# EAGLE library part 612034235221 (library Wire_to_Board_Connectors_rev15d)
WR-BHD 2.54mm Male Angled Box Header High Temperature, 34 Pins=>Code : Con_WTB_BHD_2.54_Male_THT_RS_612034235221 <http://katalog.we-online.de/media/thumbs2/eican/thb_Con_WTB_BHD_2.54_Male_THT_RS_6120xx235221_pf2.jpg> Details see: http://katalog.we-online.de/en/em/612_0xx_235_221 Created 2014-06-05, Karrer Zheng 2014 (C) Würth Elektronik
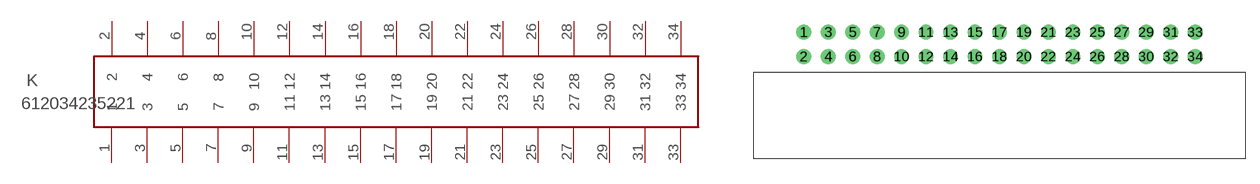
[diagram p182: symbol with the pads of 612034235221; footprint 612034235221]

Designator prefix K

## 612034235221  [612034235221]
1  1  pas
2  2  pas
3  3  pas
4  4  pas
5  5  pas
6  6  pas
7  7  pas
8  8  pas
9  9  pas
10  10  pas
11  11  pas
12  12  pas
13  13  pas
14  14  pas
15  15  pas
16  16  pas
17  17  pas
18  18  pas
19  19  pas
20  20  pas
21  21  pas
22  22  pas
23  23  pas
24  24  pas
25  25  pas
26  26  pas
27  27  pas
28  28  pas
29  29  pas
30  30  pas
31  31  pas
32  32  pas
33  33  pas
34  34  pas

## Footprint 612034235221 (pad centres in mm)
WR-BHD 2.54mm Male Angled Box Header High Temperature, 34 Pins
drill 1.02: 1 -38.1,1.27; 2 -38.1,-1.27; 3 -35.56,1.27; 4 -35.56,-1.27; 5 -33.02,1.27; 6 -33.02,-1.27; 7 -30.48,1.27; 8 -30.48,-1.27; 9 -27.94,1.27; 10 -27.94,-1.27; 11 -25.4,1.27; 12 -25.4,-1.27; 13 -22.86,1.27; 14 -22.86,-1.27; 15 -20.32,1.27; 16 -20.32,-1.27; 17 -17.78,1.27; 18 -17.78,-1.27; 19 -15.24,1.27; 20 -15.24,-1.27; 21 -12.7,1.27; 22 -12.7,-1.27; 23 -10.16,1.27; 24 -10.16,-1.27; 25 -7.62,1.27; 26 -7.62,-1.27; 27 -5.08,1.27; 28 -5.08,-1.27; 29 -2.54,1.27; 30 -2.54,-1.27; 31 0,1.27; 32 0,-1.27; 33 2.54,1.27; 34 2.54,-1.27